# EAGLE library part B8B-XH-A (library toyotune)
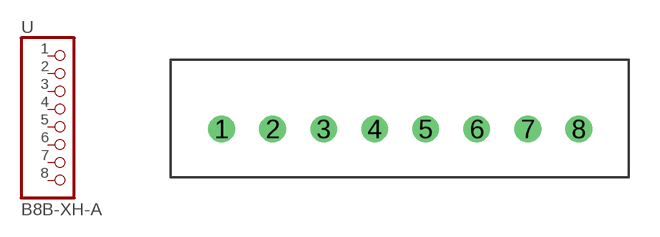
[diagram p61: symbol with the pads of JST-B-XH8; footprint JST-B-XH8]

Designator prefix -

## B8B-XH-A  [JST-B-XH8]
1  1  pas
2  2  pas
3  3  pas
4  4  pas
5  5  pas
6  6  pas
7  7  pas
8  8  pas

## Footprint JST-B-XH8 (pad centres in mm)
drill 0.8: 1 -8.77,-0.02; 2 -6.27,-0.02; 3 -3.77,-0.02; 4 -1.27,-0.02; 5 1.23,-0.02; 6 3.73,-0.02; 7 6.23,-0.02; 8 8.73,-0.02